# EAGLE library part LTC3891 (library PowerProducts)
LT-Spice library generated with : ltspice.ulp from: D:/Program Files (x86)/LTC/LTspiceIV/lib/sym/PowerProducts/LTC3900*.asy at 07.10.2012 18:43:02
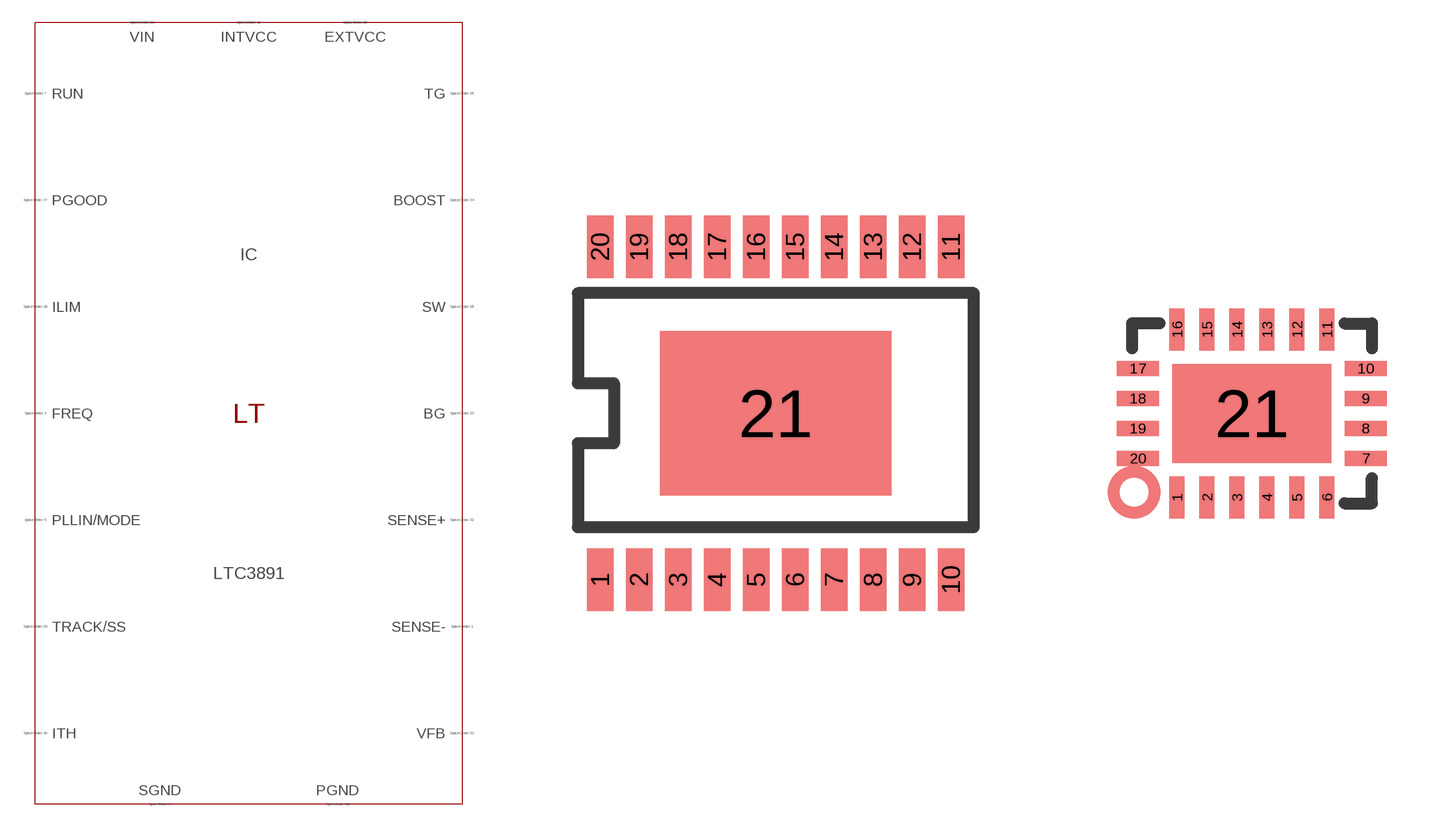
[diagram p395: symbol with the pads of TSSOP20CB(FE); footprints TSSOP20CB(FE), QFN20(UDC)]

Designator prefix IC

## LTC3891 (SPICEMODEL: LTC3891.sub; SPICEPREFIX: X; VALUE2: LTC3891)  [TSSOP20CB(FE)]
1  TRACK/SS  pas
2  FREQ  pas
3  PLLIN/MODE  pas
4  SGND  pas
5  SGND  pas
6  RUN  pas
7  SENSE-  pas
8  SENSE+  pas
9  VFB  pas
10  ITH  pas
11  PGOOD  pas
12  TG  pas
13  SW  pas
14  BOOST  pas
15  BG  pas
16  INTVCC  pas
17  EXTVCC  pas
18  PGND  pas
19  VIN  pas
20  ILIM  pas
21  SGND  pas

## LTC3891UDC (SPICEMODEL: LTC3891.sub; SPICEPREFIX: X; VALUE2: LTC3891)  [QFN20(UDC)]
1  PLLIN/MODE  pas
2  SGND  pas
3  SGND  pas
4  RUN  pas
5  SENSE-  pas
6  SENSE+  pas
7  VFB  pas
8  ITH  pas
9  PGOOD  pas
10  TG  pas
11  SW  pas
12  BOOST  pas
13  BG  pas
14  INTVCC  pas
15  EXTVCC  pas
16  PGND  pas
17  VIN  pas
18  ILIM  pas
19  TRACK/SS  pas
20  FREQ  pas
21  SGND  pas

## Footprint TSSOP20CB(FE) (pad centres in mm)
Package generated from: TSSOP20CB(FE).asc (!PADS-POWERPCB-V5.0-BASIC! DESIGN DATABASE ASCII FILE 1.0) with :import-pads-powerpcb-v5.ulp Version 1.0.1 at 04.10.2012 14:11:40
smd 0.66 x 1.575: 1 -4.388,-4.162; 2 -3.413,-4.162; 3 -2.438,-4.162; 4 -1.462,-4.162; 5 -0.487,-4.162; 6 0.487,-4.162; 7 1.462,-4.162; 8 2.438,-4.162; 9 3.413,-4.162; 10 4.388,-4.162; 11 4.388,4.162; 12 3.413,4.162; 13 2.438,4.162; 14 1.462,4.162; 15 0.487,4.162; 16 -0.487,4.162; 17 -1.462,4.162; 18 -2.438,4.162; 19 -3.413,4.162; 20 -4.388,4.162
smd 5.79 x 4.11: 21 0,0

## Footprint QFN20(UDC) (pad centres in mm)
Package generated from: QFN20(UDC).asc (!PADS-POWERPCB-V9.3-BASIC! DESIGN DATABASE ASCII FILE 1.0) with :import-pads-powerpcb-v5.ulp Version 1.0.1 at 04.10.2012 14:11:23
smd 0.375 x 1.05: 1 -1.875,-2.1; 2 -1.125,-2.1; 3 -0.375,-2.1; 4 0.375,-2.1; 5 1.125,-2.1; 6 1.875,-2.1; 11 1.875,2.1; 12 1.125,2.1; 13 0.375,2.1; 14 -0.375,2.1; 15 -1.125,2.1; 16 -1.875,2.1
smd 1.05 x 0.375: 7 2.85,-1.125; 8 2.85,-0.375; 9 2.85,0.375; 10 2.85,1.125; 17 -2.85,1.125; 18 -2.85,0.375; 19 -2.85,-0.375; 20 -2.85,-1.125
smd 3.975 x 2.475: 21 0,0